# Altium integrated library CRYSTAL-ABS25-32.768KHZ-6-T.IntLib: 1 symbol
Pins are listed as number, name and electrical type; pins without a type are passive.

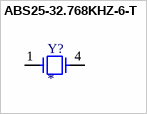
[diagram p0: symbol ABS25-32.768KHZ-6-T]

## ABS25-32.768KHZ-6-T
designator Y?
32.768 kHz Â±20ppm Crystal 6pF 50 kOhms 4-SOJ, 5.50mm pitch; MF: Abracon; MP: ABS25-32.768KHZ-6-T; SnapEDA_Link: https://www.snapeda.com/parts/ABS25-32.768KHZ-6-T/Abracon/view-part/?ref=snap; Package: 4-4 Abracon; Value: *; Check_prices: https://www.snapeda.com/parts/ABS25-32.768KHZ-6-T/Abracon/view-part/?ref=eda
footprint XTAL_ABS25-32.768KHZ-6-T
pins: 1, 4